# EAGLE library part LTC3630 (library toyotune)
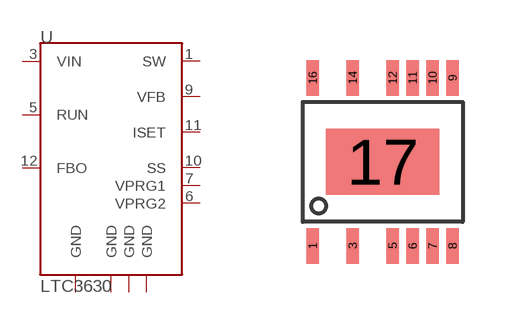
[diagram p53: symbol with the pads of MSE16; footprint MSE16]

Designator prefix -

## LTC3630  [MSE16]
1  SW  pwr
3  VIN  pwr
5  RUN  in
6  VPRG2  in
7  VPRG1  in
8  GND  pwr
9  VFB
10  SS  in
11  ISET
12  FBO  out
14  GND  pwr
16  GND  pwr
17  GND  pwr

## Footprint MSE16 (pad centres in mm)
smd 0.305 x 0.89: 1 -1.75,-2.1; 3 -0.75,-2.1; 5 0.25,-2.1; 6 0.75,-2.1; 7 1.25,-2.1; 8 1.75,-2.1; 9 1.75,2.1; 10 1.25,2.1; 11 0.75,2.1; 12 0.25,2.1; 14 -0.75,2.1; 16 -1.75,2.1
smd 2.845 x 1.651: 17 0,0